# Altium footprint library BQ4050.PcbLib: 55 footprints (part 3 of 4)
Each footprint in its own frame and in the unit in brackets; x right, y up, seen from the top. Pads: shape width x height; smd on the part's side, far side on the other; paste and mask are expansions set on the pad; w line width, h text height; cw(c..) or ccw(c..) is an arc to the next point about the centre after c.
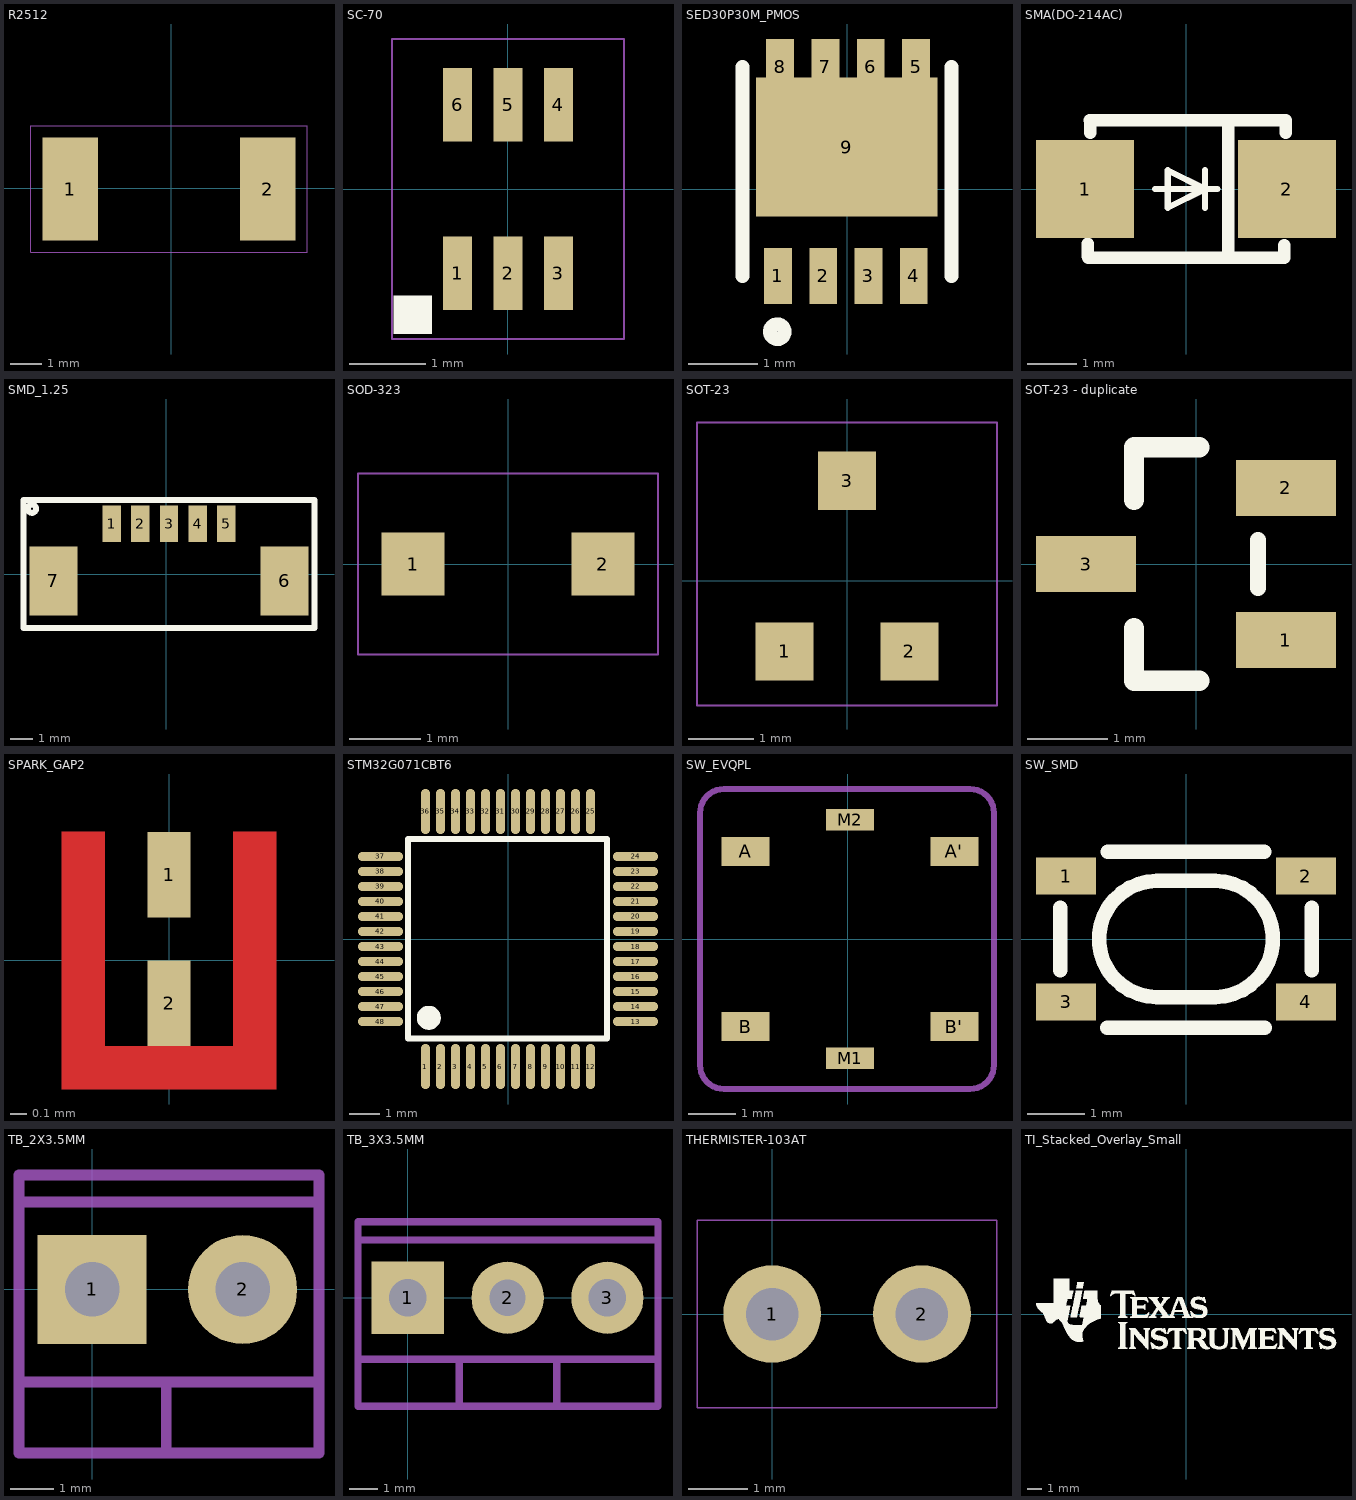
[diagram p2: the footprints below, top view; thin cyan lines are the x and y axes]

## R2512 [mil]
pads (2):
  rect 70x130 smd: 1(-128,-1) 2(122,-1)
Mechanical 5:
  lines w1: -178,-81 172,-81 172,79 -178,79 -178,-81

## SC-70 [mil]
pads (6):
  rect 15x38 smd: 1(-25.9,-43.4) 2(0.1,-43.4) 3(26.1,-43.4) 4(26.1,43.6) 5(0.1,43.6) 6(-25.9,43.6)
Top Overlay:
  region: -39.37,-74.8 -59.06,-74.8 -59.06,-55.12 -39.37,-55.12
Mechanical 5:
  lines w1.1: -59.9,-77.4 60.1,-77.4 60.1,77.6 -59.9,77.6 -59.9,-77.4

## SED30P30M_PMOS [mm]
pads (9):
  rect 0.4x0.8 smd: 1(-0.992,-1.246) 2(-0.342,-1.246) 3(0.308,-1.246) 4(0.958,-1.246) 5(0.992,1.754) 6(0.341,1.754) 7(-0.309,1.754) 8(-0.959,1.754)
  rect 2.6x2 smd: 9(-0.005,0.604)
Top Overlay:
  circle w0.2: c-1,-2.046 r0.105
  lines w0.2: -1.5,-1.246 -1.5,1.754 ; 1.5,-1.246 1.5,1.754

## SMA(DO-214AC) [mm]
pads (2):
  rect 2x2 smd: 1(-2.057,0) 2(2.057,0)
Top Overlay:
  lines w0.127: -0.627,0 0.643,0 ; 0.389,-0.381 0.389,0 ; 0.389,0.381 0.389,0 ; 0.389,0 -0.373,-0.381 -0.373,0 -0.373,0.381 0.389,0
  lines w0.254: -2.007,-1.367 -2.007,-1.118 ; -1.991,-1.397 2.007,-1.397 2.007,-1.147 ; -1.966,1.397 2.032,1.397 2.032,1.147 ; -1.956,1.147 -1.956,1.397 ; 0.864,-1.245 0.864,1.245

## SMD_1.25 [mm]
pads (7):
  rect 0.8x1.6 smd: 1(-2.37,2.216) 2(-1.12,2.216) 3(0.13,2.216) 4(1.38,2.216) 5(2.63,2.216)
  rect 2.1x3 smd: 6(5.18,-0.284) 7(-4.92,-0.284)
Top Overlay:
  circle w0.254: c-5.849,2.871 r0.18
  lines w0.254: -6.23,-2.336 6.48,-2.336 6.48,3.252 -6.23,3.252 -6.23,-2.336

## SOD-323 [mil]
pads (2):
  rect 35x35 smd mask+5: 1(-52.5,0) 2(52.5,0)
Mechanical 5:
  lines w1.1: -83,-50 -83,50 83,50 83,-50 -83,-50

## SOT-23 [mil]
pads (3):
  rect 35x35 smd: 1(-37.5,-42.5) 2(37.5,-42.5) 3(0,60)
Mechanical 5:
  lines w1.1: -90,-75 -90,95 90,95 90,-75 -75,-75 -90,-75

## SOT-23 - duplicate [mm] "DMN601K"
pads (3):
  rect 1.25x0.7 smd: 1(1.123,-0.95) 2(1.123,0.95) 3(-1.377,0)
Top Overlay:
  lines w0.2: 0.773,-0.3 0.773,0.3
  lines w0.254: -0.777,-0.8 -0.777,-1.46 0.038,-1.46 ; 0.038,1.46 -0.777,1.46 ; -0.777,0.8 -0.777,1.46 ; -0.777,0.8 -0.777,1.46 ; -0.777,0.8 -0.777,1.46
3D body "SW3dPS-sot-3p290x130ll237h100.STEP": height 1, standoff 0, extent -1.227,-1.45 1.143,1.45

## SPARK_GAP2 [mil]
pads (2):
  rect 10x20 smd: 1(0,20) 2(0,-10)
Top Layer:
  region: -15,30 -25,30 -25,-30 25,-30 25,30 15,30 15,-20 -15,-20
Top Solder:
  region: -25,-30 25,-30 25,40 -25,40

## STM32G071CBT6 [mm]
pads (48):
  oval 0.3x1.5 smd: 1(-2.75,-4.25) 2(-2.25,-4.25) 3(-1.75,-4.25) 4(-1.25,-4.25) 5(-0.75,-4.25) 6(-0.25,-4.25) 7(0.25,-4.25) 8(0.75,-4.25) 9(1.25,-4.25) 10(1.75,-4.25) 11(2.25,-4.25) 12(2.75,-4.25) 25(2.75,4.25) 26(2.25,4.25) 27(1.75,4.25) 28(1.25,4.25) 29(0.75,4.25) 30(0.25,4.25) 31(-0.25,4.25) 32(-0.75,4.25) 33(-1.25,4.25) 34(-1.75,4.25) 35(-2.25,4.25) 36(-2.75,4.25)
  oval 1.5x0.3 smd: 13(4.25,-2.75) 14(4.25,-2.25) 15(4.25,-1.75) 16(4.25,-1.25) 17(4.25,-0.75) 18(4.25,-0.25) 19(4.25,0.25) 20(4.25,0.75) 21(4.25,1.25) 22(4.25,1.75) 23(4.25,2.25) 24(4.25,2.75) 37(-4.25,2.75) 38(-4.25,2.25) 39(-4.25,1.75) 40(-4.25,1.25) 41(-4.25,0.75) 42(-4.25,0.25) 43(-4.25,-0.25) 44(-4.25,-0.75) 45(-4.25,-1.25) 46(-4.25,-1.75) 47(-4.25,-2.25) 48(-4.25,-2.75)
Top Overlay:
  lines w0.2: -2.896,3.34 3.302,3.34 3.302,-3.315 -3.327,-3.315 -3.327,3.34 -2.565,3.34
  lines w0.4: -2.642,-2.426 ccw(c-2.64,-2.626) -2.639,-2.426

## SW_EVQPL [mil]
pads (6):
  rect 40x24 smd: A(-85,73) A'(89,73) B(-85,-73) B'(89,-73)
  rect 40x18 smd: M1(2,-99.5) M2(2,99.5)
Mechanical 5:
  lines w5: -123,-105 ccw(c-103,-105) -103,-125 102,-125 ccw(c102,-105) 122,-105 122,105 ccw(c102,105) 102,125 -103,125 ccw(c-103,105) -123,105 -123,-105

## SW_SMD [mm]
pads (4):
  rect 1.05x0.65 smd: 1(-2.1,1.1) 2(2.1,1.1) 3(-2.1,-1.1) 4(2.1,-1.1)
Top Overlay:
  lines w0.254: -2.2,-0.544 -2.2,0.544 ; -1.381,-1.55 1.381,-1.55 ; -1.366,1.524 1.366,1.524 ; 2.2,-0.544 2.2,0.544 ; -0.508,-1.016 cw(c-0.508,0) -0.508,1.016 0.508,1.016 cw(c0.508,0) 0.508,-1.016 -0.508,-1.016

## TB_2X3.5MM [mil]
pads (2):
  rect 100x100 hole 50: 1(0,0)
  round 100 hole 50: 2(138,0)
Mechanical 5:
  lines w10: -67,-85 208,-85 ; -67,80 208,80 ; 68,-150 68,-85 ; -67,-150 208,-150 208,105 -67,105 -67,-150

## TB_3X3.5MM [mil]
pads (3):
  rect 100x100 hole 52: 1(0,0)
  round 100 hole 50: 2(138,0)
  round 100 hole 52: 3(276,0)
Mechanical 5:
  lines w10: -69,-85 346,-85 ; -69,80 346,80 ; 71,-150 71,-85 ; 206,-150 206,-85 ; -69,-150 346,-150 346,105 -69,105 -69,-150

## THERMISTER-103AT [mil]
pads (2):
  round 65 hole 35: 1(0,0) 2(100,0)
Mechanical 5:
  lines w1: -50,-62.5 150,-62.5 150,62.5 -50,62.5 -50,-62.5

## TI_Stacked_Overlay_Small [mm]
Top Overlay:
  drawing of 18 lines, arcs and shapes, not listed